# EAGLE library part CONNECTOR-12 (library marius)
12-pin connectors
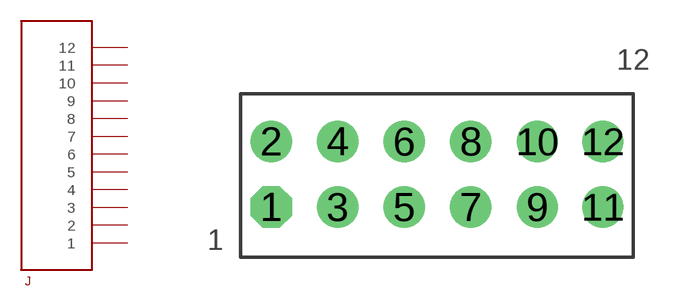
[diagram p22: symbol with the pads of HEADER-6X2; footprint HEADER-6X2]

Designator prefix J

## CONNECTOR-12HEADER6X2 (MPN: SQW-106-01-L-D; PROD: SAMTEC)  [HEADER-6X2]
1  2
2  1
3  4
4  3
5  6
6  5
7  8
8  7
9  10
10  9
11  12
12  11

## Footprint HEADER-6X2 (pad centres in mm)
5-pin JST PH Shrouded Header 2.0mm pitch P/N B5B-PH-K-S. Mating plug PHR-5
drill 1 pad 1.6 octagon: 1 -6.43,-1.222
drill 1 pad 1.6: 2 -6.43,1.317; 3 -3.85,-1.222; 4 -3.85,1.317; 5 -1.27,-1.222; 6 -1.27,1.317; 7 1.31,-1.222; 8 1.31,1.317; 9 3.89,-1.222; 10 3.89,1.317; 11 6.43,-1.222; 12 6.43,1.317